# EAGLE library part TPS84250 (library texas-instruments)
7V to 50V Input, 2.5A Step-Down, Integrated Power Solution The TPS84250 is an easy-to-use integrated power solution that combines a 2.5-A DC/DC converter with an inductor and passives into a low profile, QFN package. This total power solution allows as few as five external components and eliminates the loop compensation and magnetics part selection process. The small 9 mm × 11 mm × 2.8 mm, QFN package is easy to solder onto a printed circuit board and allows a compact point-of-load design with greater than 90% efficiency and excellent power dissipation capability. The TPS84250 offers the flexibility and the featureset of a discrete point-of-load design and is ideal for powering a wide range of ICs and systems. Advanced packaging technology affords a robust and reliable power solution compatible with standard QFN mounting and testing techniques.
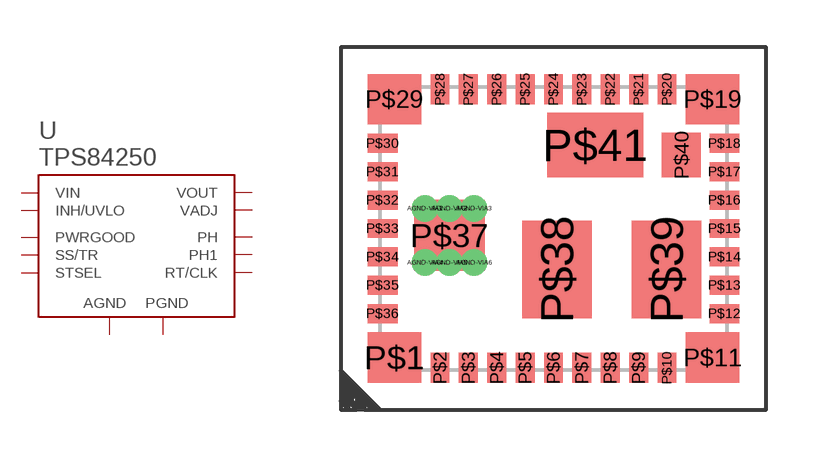
[diagram p4: symbol with the pads of S-PB1QFN-N41; footprint S-PB1QFN-N41]

Designator prefix U

## TPS84250  [S-PB1QFN-N41]
AGND-VIA1  AGND
AGND-VIA2  AGND
AGND-VIA3  AGND
AGND-VIA4  AGND
AGND-VIA5  AGND
AGND-VIA6  AGND
P$1  AGND
P$4  AGND
P$5  AGND
P$6  PH1
P$7  PH1
P$8  PGND
P$9  PGND
P$10  VOUT
P$11  VOUT
P$12  VOUT
P$13  VOUT
P$14  VOUT
P$15  VOUT
P$16  PGND
P$17  PGND
P$18  PGND
P$19  PGND
P$20  PGND
P$21  PH
P$22  PH
P$23  PH
P$24  PH
P$26  VIN
P$27  INH/UVLO
P$28  SS/TR
P$29  STSEL
P$30  AGND
P$31  RT/CLK
P$32  AGND
P$33  AGND
P$34  AGND
P$35  PWRGOOD
P$36  VADJ
P$37  AGND
P$38  PH
P$39  VOUT
P$40  PGND
P$41  PH

## Footprint S-PB1QFN-N41 (pad centres in mm)
drill 0.33 pad 0.5: AGND-VIA1 -4.08,0.64; AGND-VIA2 -3.3,0.64; AGND-VIA3 -2.52,0.64; AGND-VIA4 -4.08,-1.08; AGND-VIA5 -3.3,-1.08; AGND-VIA6 -2.52,-1.08
smd 1.7 x 1.6: P$1 -5.05,-4.1; P$11 5.05,-4.1; P$19 5.05,4.1; P$29 -5.05,4.1
smd 0.6 x 0.95: P$2 -3.6,-4.42; P$3 -2.7,-4.42; P$4 -1.8,-4.42; P$5 -0.9,-4.42; P$6 0,-4.42; P$7 0.9,-4.42; P$8 1.8,-4.42; P$9 2.7,-4.42; P$10 3.6,-4.42; P$20 3.6,4.42; P$21 2.7,4.42; P$22 1.8,4.42; P$23 0.9,4.42; P$24 0,4.42; P$25 -0.9,4.42; P$26 -1.8,4.42; P$27 -2.7,4.42; P$28 -3.6,4.42
smd 0.95 x 0.6: P$12 5.425,-2.7; P$13 5.425,-1.8; P$14 5.425,-0.9; P$15 5.425,0; P$16 5.425,0.9; P$17 5.425,1.8; P$18 5.425,2.7; P$30 -5.425,2.7; P$31 -5.425,1.8; P$32 -5.425,0.9; P$33 -5.425,0; P$34 -5.425,-0.9; P$35 -5.425,-1.8; P$36 -5.425,-2.7
smd 2.25 x 2.25: P$37 -3.3,-0.22
smd 2.2 x 3.1: P$38 0.11,-1.3; P$39 3.59,-1.3
smd 1.24 x 1.4: P$40 4.06,2.33
smd 3.05 x 2.04: P$41 1.32,2.65